# Altium schematic symbol library TZMB16-GS08.SchLib: 1 symbol
Pins are listed as number, name and electrical type; pins without a type are passive.

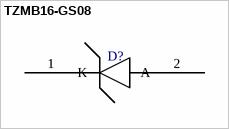
[diagram p0: symbol TZMB16-GS08]

## TZMB16-GS08
designator D?  (value not drawn)
footprint TZMB16-GS08
pins: 1 K, 2 A